# Altium schematic symbol library DTC143ZEBTL.SchLib: 1 symbol
Pins are listed as number, name and electrical type; pins without a type are passive.

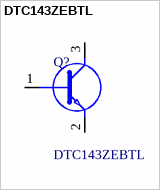
[diagram p0: symbol DTC143ZEBTL]

## DTC143ZEBTL
designator Q?
ROHM, DTC143ZEBTL NPN Digital Transistor, 100 mA 50 V 4.7 k, Ratio Of 10, 3-Pin SC-89; Manufacturer_Name: ROHM Semiconductor; Geometry.Height: 0.85mm; Manufacturer_Part_Number: DTC143ZEBTL; Mouser Part Number: 755-DTC143ZEBTL; Mouser Price/Stock: https://www.mouser.co.uk/ProductDetail/ROHM-Semiconductor/DTC143ZEBTL?qs=IsRgwgmxh6%252Bn%252Bp0edl8N%2Fw%3D%3D; Arrow Part Number: DTC143ZEBTL; Arrow Price/Stock: https://www.arrow.com/en/products/dtc143zebtl/rohm-semiconductor; Datasheet Link: https://datasheet.datasheetarchive.com/originals/distributors/Datasheets_SAMA/65f79013acac3be2ce67f49282ff3c06.pdf
footprint SOTFL50P160X85-3N
pins: 1 B, 2 E, 3 C